# EAGLE library part PINHEAD-8 (library bt_electromech)
Pin Header Male
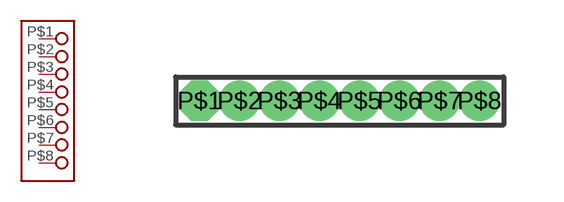
[diagram p2: symbol with the pads of PTH-8-1MM; footprint PTH-8-1MM]

Designator prefix -

## PINHEAD-8  [PTH-8-1MM]
P$1  P$1
P$2  P$2
P$3  P$3
P$4  P$4
P$5  P$5
P$6  P$6
P$7  P$7
P$8  P$8

## Footprint PTH-8-1MM (pad centres in mm)
drill 0.5 pad 0.805 octagon: P$1 -3.5,0
drill 0.5 pad 0.805: P$2 -2.5,0; P$3 -1.5,0; P$4 -0.5,0; P$5 0.5,0; P$6 1.5,0; P$7 2.5,0; P$8 3.5,0